# Altium schematic symbol library MB0039A.01.A.3.SchLib: 1 symbol
Pins are listed as number, name and electrical type; pins without a type are passive.

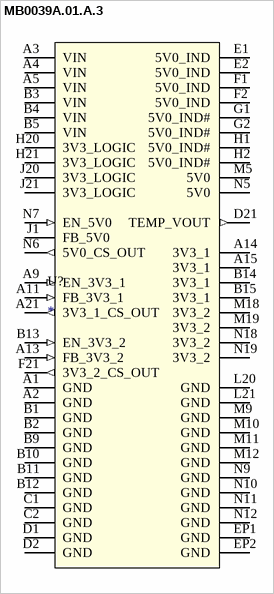
[diagram p0: symbol MB0039A.01.A.3]

## MB0039A.01.A.3
designator U?
pins: A1 GND (power), A2 GND (power), A3 VIN (power), A4 VIN (power), A5 VIN (power), A9 EN_3V3_1 (in), A11 FB_3V3_1 (in), A13 FB_3V3_2 (in), A14 3V3_1 (power), A15 3V3_1 (power), A21 3V3_1_CS_OUT (out), B1 GND (power), B2 GND (power), B3 VIN (power), B4 VIN (power), B5 VIN (power), B9 GND (power), B10 GND (power), B11 GND (power), B12 GND (power), B13 EN_3V3_2 (in), B14 3V3_1 (power), B15 3V3_1 (power), C1 GND (power), C2 GND (power), D1 GND (power), D2 GND (power), D21 TEMP_VOUT (out), E1 5V0_IND (power), E2 5V0_IND (power), EP1 GND (power), EP2 GND (power), F1 5V0_IND (power), F2 5V0_IND (power), F21 3V3_2_CS_OUT (out), G1 5V0_IND# (power), G2 5V0_IND# (power), H1 5V0_IND# (power), H2 5V0_IND# (power), H20 3V3_LOGIC (power), H21 3V3_LOGIC (power), J1 FB_5V0, J20 3V3_LOGIC (power), J21 3V3_LOGIC (power), L20 GND (power), L21 GND (power), M5 5V0 (power), M9 GND (power), M10 GND (power), M11 GND (power), M12 GND (power), M18 3V3_2 (power), M19 3V3_2 (power), N5 5V0 (power), N6 5V0_CS_OUT (out), N7 EN_5V0 (in), N9 GND (power), N10 GND (power), N11 GND (power), N12 GND (power), N18 3V3_2 (power), N19 3V3_2 (power)